# EAGLE library part 8-PIN_TEST_HEADER (library powercube)
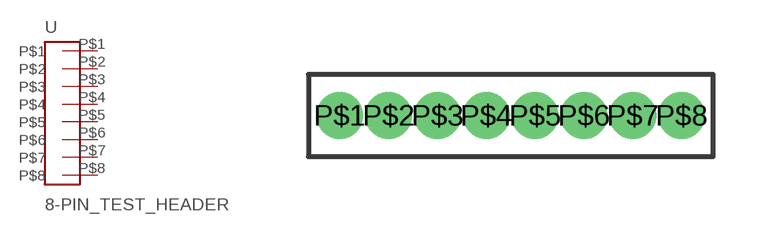
[diagram p13: symbol with the pads of 8-PIN_TEST_HEADER; footprint 8-PIN_TEST_HEADER]

Designator prefix -

## 8-PIN_TEST_HEADER  [8-PIN_TEST_HEADER]
P$1  P$1
P$2  P$2
P$3  P$3
P$4  P$4
P$5  P$5
P$6  P$6
P$7  P$7
P$8  P$8

## Footprint 8-PIN_TEST_HEADER (pad centres in mm)
drill 0.711 pad 1.067: P$1 -4.445,0; P$2 -3.175,0; P$3 -1.905,0; P$4 -0.635,0; P$5 0.635,0; P$6 1.905,0; P$7 3.175,0; P$8 4.445,0